# Altium schematic symbol library Schlib1.SchLib: 1 symbol
Pins are listed as number, name and electrical type; pins without a type are passive.

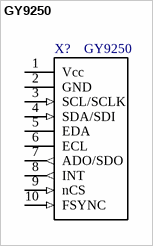
[diagram p0: symbol GY9250]

## GY9250
designator X?
footprint GY9250
pins: 1 Vcc (power), 2 GND (power), 3 SCL/SCLK (in), 4 SDA/SDI (in), 5 EDA, 6 ECL, 7 ADO/SDO (out), 8 INT (out), 9 nCS (in), 10 FSYNC (in)